# Altium footprint library LFCSP-16_AD.PcbLib: 1 footprints
Each footprint in its own frame and in the unit in brackets; x right, y up, seen from the top. Pads: shape width x height; smd on the part's side, far side on the other; paste and mask are expansions set on the pad; w line width, h text height; cw(c..) or ccw(c..) is an arc to the next point about the centre after c.
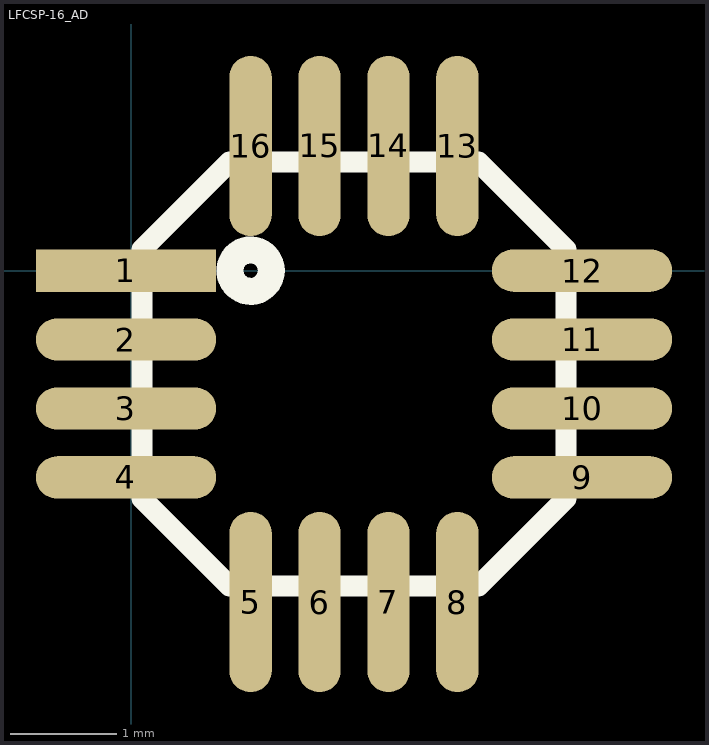
[diagram p0: the footprint, top view; thin cyan lines are the x and y axes]

## LFCSP-16_AD [mm]
pads (16):
  rect 1.7x0.4 smd: 1(-0.05,0)
  oval 1.7x0.4 smd: 2(-0.05,-0.65) 3(-0.05,-1.3) 4(-0.05,-1.95) 9(4.25,-1.95) 10(4.25,-1.3) 11(4.25,-0.65) 12(4.25,0)
  oval 0.4x1.7 smd: 5(1.125,-3.125) 6(1.775,-3.125) 7(2.425,-3.125) 8(3.075,-3.125) 13(3.075,1.175) 14(2.425,1.175) 15(1.775,1.175) 16(1.125,1.175)
Top Overlay:
  circle w0.254: c1.125,0 r0.195
  lines w0.2: 0.1,-2.15 0.925,-2.975 3.275,-2.975 4.1,-2.15 4.1,0.2 3.275,1.025 0.925,1.025 0.1,0.2 0.1,-2.15